# EAGLE library part ADA4937-2 (library analogdevices-differentialamps)
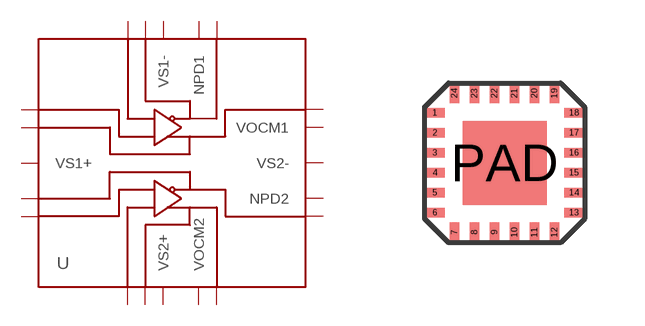
[diagram p0: symbol with the pads of 24-VFQFN; footprint 24-VFQFN]

Designator prefix -

## ADA4937-2  [24-VFQFN]
1  IN1-
2  FB1+
3  VS1+
4  VS1+.
5  FB2-
6  IN2+
7  IN2-
8  FB2+
9  VS2+
10  VS2+.
11  VOCM2
12  OUT2+
13  OUT2-
14  NPD2
15  VS2-.
16  VS2-
17  VOCM1
18  OUT1+
19  OUT1-
20  NPD1
21  VS1-
22  VS1-.
23  FB1-
24  IN1+

## Footprint 24-VFQFN (pad centres in mm)
smd 0.5 x 0.23: 1 -1.74,1.25; 2 -1.74,0.75; 3 -1.74,0.25; 4 -1.74,-0.25; 5 -1.74,-0.75; 6 -1.74,-1.25; 13 1.74,-1.25; 14 1.74,-0.75; 15 1.74,-0.25; 16 1.74,0.25; 17 1.74,0.75; 18 1.74,1.25
smd 0.23 x 0.5: 7 -1.25,-1.74; 8 -0.75,-1.74; 9 -0.25,-1.74; 10 0.25,-1.74; 11 0.75,-1.74; 12 1.25,-1.74; 19 1.25,1.74; 20 0.75,1.74; 21 0.25,1.74; 22 -0.25,1.74; 23 -0.75,1.74; 24 -1.25,1.74
smd 2.1 x 2.1: PAD 0,0